# Altium footprint library QFP - Corner Index.PcbLib: 29 footprints (part 1 of 2)
Each footprint in its own frame and in the unit in brackets; x right, y up, seen from the top. Pads: shape width x height; smd on the part's side, far side on the other; paste and mask are expansions set on the pad; w line width, h text height; cw(c..) or ccw(c..) is an arc to the next point about the centre after c.
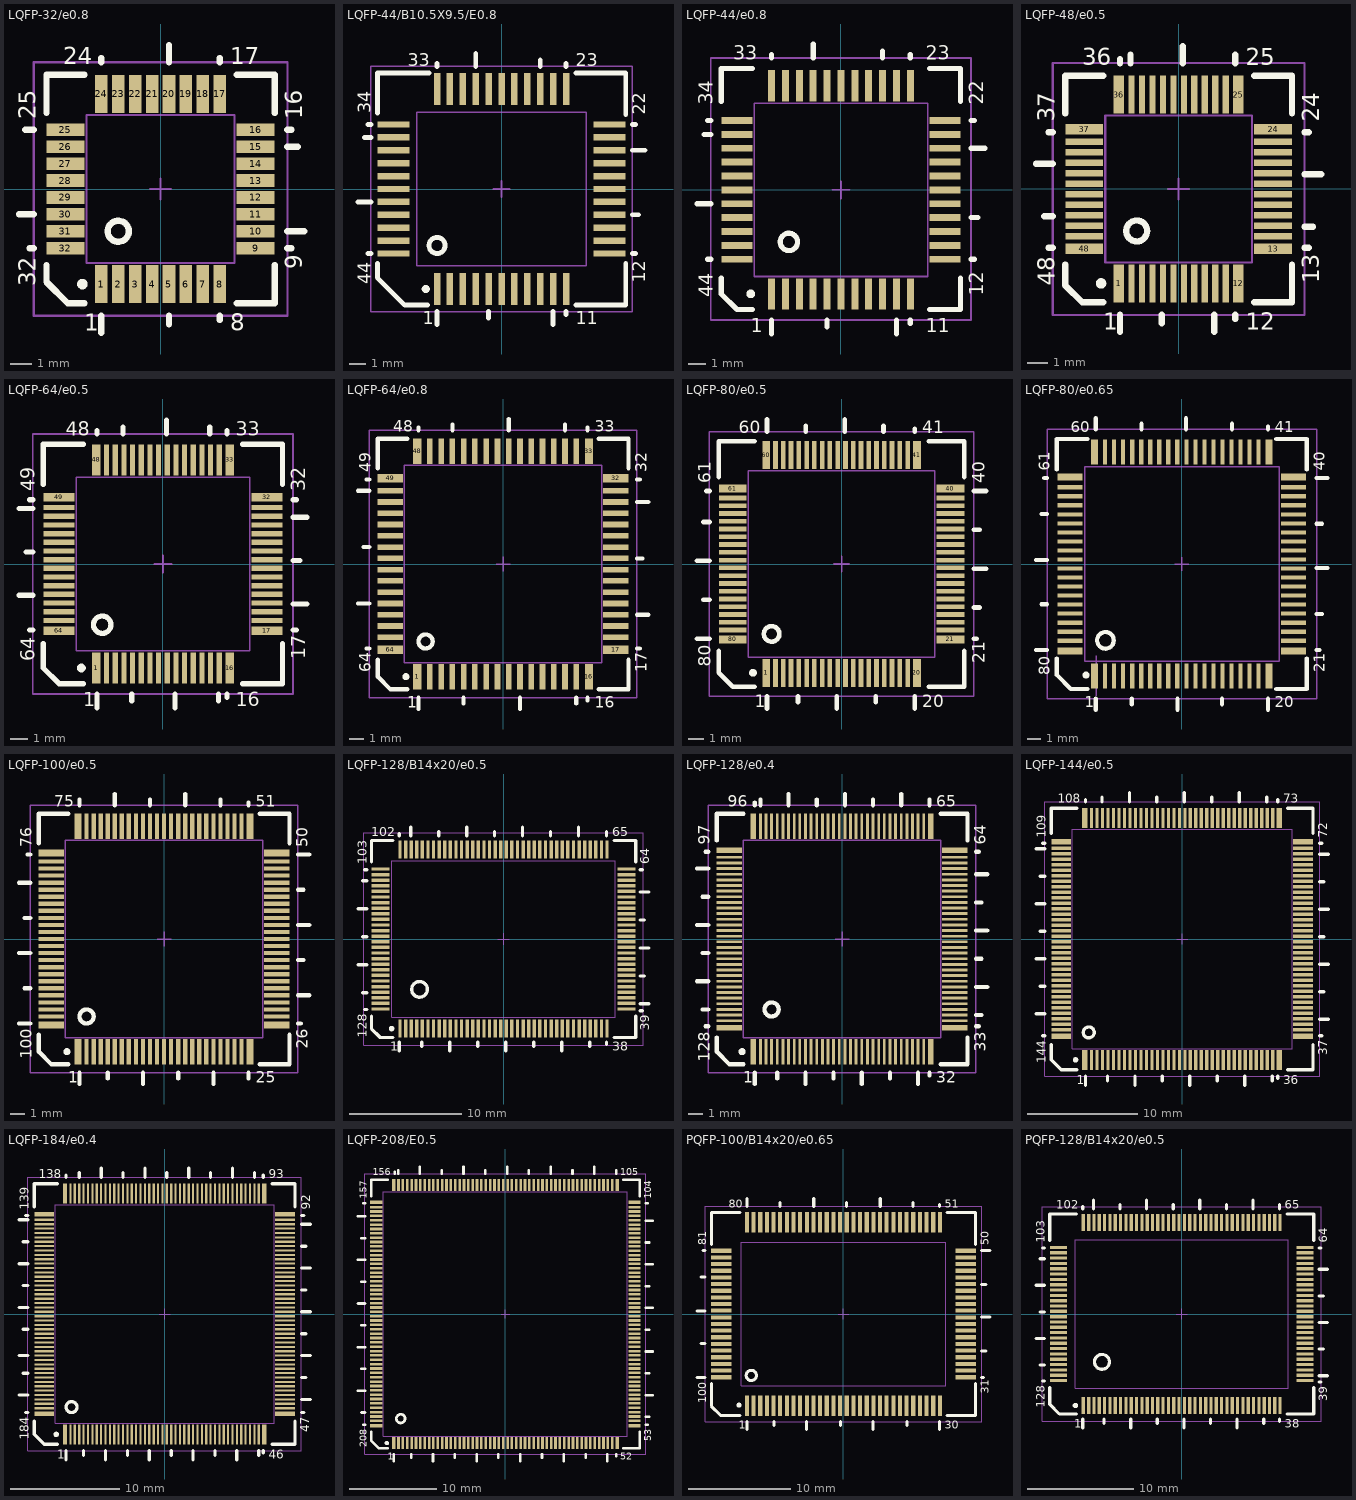
[diagram p0: the footprints below, top view; thin cyan lines are the x and y axes]

## LQFP-32/e0.8 [mm] "LQFP-32; JEDEC MS-026BBA; Body 7.00x7.00x1.60mm; Pitch 0.8mm;"
height 1.6
pads (32):
  rect 0.6x1.8 smd paste+0 mask+0.1: 1(-2.8,-4.5) 2(-2,-4.5) 4(-0.4,-4.5) 5(0.4,-4.5) 6(1.2,-4.5) 7(2,-4.5) 8(2.8,-4.5) 17(2.8,4.5) 18(2,4.5) 19(1.2,4.5) 20(0.4,4.5) 21(-0.4,4.5) 22(-1.2,4.5) 24(-2.8,4.5)
  rect 0.6x1.8 smd mask+0.1: 3(-1.2,-4.5) 23(-2,4.5)
  rect 1.8x0.6 smd paste+0 mask+0.1: 9(4.5,-2.8) 10(4.5,-2) 12(4.5,-0.4) 13(4.5,0.4) 14(4.5,1.2) 15(4.5,2) 16(4.5,2.8) 26(-4.5,2) 28(-4.5,0.4) 29(-4.5,-0.4) 30(-4.5,-1.2) 31(-4.5,-2) 32(-4.5,-2.8)
  rect 1.8x0.6 smd mask+0.1: 11(4.5,-1.2) 25(-4.5,2.8) 27(-4.5,1.2)
Top Overlay:
  circle w0.3: c-3.7,-4.5 r0.1
  circle w0.3: c-2,-2 r0.5
  lines w0.3: -6.7,-1.2 -6,-1.2 ; -6.4,2.8 -6,2.8 ; -6.2,-2.8 -6,-2.8 ; -5.4,-3.6 -5.4,-4.4 -4.4,-5.4 -3.6,-5.4 ; -5.4,3.6 -5.4,5.4 -3.6,5.4 ; -2.8,-6.8 -2.8,-6 ; -2.8,6 -2.8,6.2 ; 0.4,-6.4 0.4,-6 ; 0.4,6 0.4,6.8 ; 2.8,-6.2 2.8,-6 ; 2.8,6 2.8,6.2 ; 3.6,-5.4 5.4,-5.4 5.4,-3.6 ; 3.6,5.4 5.4,5.4 5.4,3.6 ; 6,-2.8 6.2,-2.8 ; 6,-2 6.8,-2 ; 6,2 6.5,2 ; 6,2.8 6.2,2.8
  text "1" at -3.6,-6.7 h0.8
  text "8" at 3.3,-6.7 h0.8
  text "9" at 6.7,-3.8 h0.8
  text "16" at 6.7,3.3 h0.8
  text "17" at 3.3,5.9 h0.8
  text "24" at -4.6,5.9 h0.8
  text "25" at -5.9,3.3 h0.8
  text "32" at -5.9,-4.6 h0.8
Package:
  circle w0.1: c-2,-2 r0.5
  lines w0.1: -3.5,-3.5 -3.5,3.5 3.5,3.5 3.5,-3.5 -3.5,-3.5
Courtyard:
  lines w0.1: -0.5,0 0.5,0 ; 0,-0.5 0,0.5 ; -6,-6 6,-6 6,6 -6,6 -6,-6
3D body: height 1.6, standoff 0.1, extent -3.5,-3.5 3.5,3.5

## LQFP-44/B10.5X9.5/E0.8 [mm] "LQFP-44; Body 14.50x13.50x2.25mm; Pitch 0.8mm;"
height 2.25
pads (44):
  rect 0.4x2 smd mask+0.1: 1(-4,-6.2) 2(-3.2,-6.2) 3(-2.4,-6.2) 4(-1.6,-6.2) 5(-0.8,-6.2) 6(0,-6.2) 7(0.8,-6.2) 8(1.6,-6.2) 9(2.4,-6.2) 10(3.2,-6.2) 11(4,-6.2) 23(4,6.2) 24(3.2,6.2) 25(2.4,6.2) 26(1.6,6.2) 27(0.8,6.2) 28(0,6.2) 29(-0.8,6.2) 30(-1.6,6.2) 31(-2.4,6.2) 32(-3.2,6.2) 33(-4,6.2)
  rect 2x0.4 smd mask+0.1: 12(6.7,-4) 13(6.7,-3.2) 14(6.7,-2.4) 15(6.7,-1.6) 16(6.7,-0.8) 17(6.7,0) 18(6.7,0.8) 19(6.7,1.6) 20(6.7,2.4) 21(6.7,3.2) 22(6.7,4) 34(-6.7,4) 35(-6.7,3.2) 36(-6.7,2.4) 37(-6.7,1.6) 38(-6.7,0.8) 39(-6.7,0) 40(-6.7,-0.8) 41(-6.7,-1.6) 42(-6.7,-2.4) 43(-6.7,-3.2) 44(-6.7,-4)
Top Overlay:
  circle w0.3: c-4.7,-6.2 r0.1
  circle w0.3: c-4,-3.5 r0.5
  lines w0.3: -8.9,-0.8 -8.1,-0.8 ; -8.5,3.2 -8.1,3.2 ; -8.3,-4 -8.1,-4 ; -8.3,4 -8.1,4 ; -7.7,-4.6 -7.7,-5.5 -6,-7.2 -4.6,-7.2 ; -7.7,4.7 -7.7,7.2 -4.5,7.2 ; -4,-8.4 -4,-7.6 ; -4,7.6 -4,7.8 ; -1.6,7.6 -1.6,8.4 ; -0.8,-8 -0.8,-7.6 ; 2.4,7.6 2.4,8 ; 3.2,-8.4 3.2,-7.6 ; 4,-7.8 4,-7.6 ; 4,7.6 4,7.8 ; 4.6,-7.2 7.7,-7.2 7.7,-4.6 ; 4.6,7.2 7.7,7.2 7.7,4.6 ; 8.1,-4 8.3,-4 ; 8.1,-1.6 8.5,-1.6 ; 8.1,2.4 8.9,2.4 ; 8.1,4 8.3,4
  text "44" at -8.1,-5.9 h0.8
  text "34" at -8.1,4.7 h0.8
  text "33" at -5.8,7.6 h0.8
  text "23" at 4.6,7.6 h0.8
  text "22" at 8.9,4.6 h0.8
  text "12" at 8.9,-5.8 h0.8
  text "11" at 4.6,-8.4 h0.8
  text "1" at -4.9,-8.4 h0.8
Package:
  circle w0.1: c-4,-3.5 r0.5
  lines w0.1: -5.25,-4.75 5.25,-4.75 5.25,4.75 -5.25,4.75 -5.25,-4.75
Courtyard:
  lines w0.1: -0.5,0 0.5,0 ; 0,-0.5 0,0.5 ; -8.1,-7.6 -8.1,7.6 8.1,7.6 8.1,-7.6 -8.1,-7.6
3D body: height 2.25, standoff 0.2, extent -5.25,-4.75 5.25,4.75

## LQFP-44/e0.8 [mm] "LQFP-44; JEDEC JEDEC MS-026BCB; Body 10.00x10.00x1.60mm; Pitch 0.8mm;"
height 1.6
pads (44):
  rect 0.4x1.8 smd mask+0.1: 1(-4,-6) 2(-3.2,-6) 3(-2.4,-6) 4(-1.6,-6) 5(-0.8,-6) 6(0,-6) 7(0.8,-6) 8(1.6,-6) 9(2.4,-6) 10(3.2,-6) 11(4,-6) 23(4,6) 24(3.2,6) 25(2.4,6) 26(1.6,6) 27(0.8,6) 28(0,6) 29(-0.8,6) 30(-1.6,6) 31(-2.4,6) 32(-3.2,6) 33(-4,6)
  rect 1.8x0.4 smd mask+0.1: 12(6,-4) 13(6,-3.2) 14(6,-2.4) 15(6,-1.6) 16(6,-0.8) 17(6,0) 18(6,0.8) 19(6,1.6) 20(6,2.4) 21(6,3.2) 22(6,4) 34(-6,4) 35(-6,3.2) 36(-6,2.4) 37(-6,1.6) 38(-6,0.8) 39(-6,0) 40(-6,-0.8) 41(-6,-1.6) 42(-6,-2.4) 43(-6,-3.2) 44(-6,-4)
Top Overlay:
  circle w0.3: c-5.2,-6 r0.1
  circle w0.3: c-3,-3 r0.5
  lines w0.3: -8.3,-0.8 -7.5,-0.8 ; -7.9,3.2 -7.5,3.2 ; -7.7,-4 -7.5,-4 ; -7.7,4 -7.5,4 ; -6.9,-5.1 -6.9,-6 -6,-6.9 -5.1,-6.9 ; -6.9,5.1 -6.9,7 -5.1,7 ; -4,-8.3 -4,-7.5 ; -4,7.6 -4,7.8 ; -1.6,7.6 -1.6,8.4 ; -0.8,-7.9 -0.8,-7.5 ; 2.4,7.6 2.4,8 ; 3.2,-8.3 3.2,-7.5 ; 4,-7.7 4,-7.5 ; 4,7.6 4,7.8 ; 5.1,-6.9 6.9,-6.9 6.9,-5.1 ; 5.1,7 6.9,7 6.9,5.1 ; 7.5,-4 7.7,-4 ; 7.5,-1.6 7.9,-1.6 ; 7.5,2.4 8.3,2.4 ; 7.5,4 7.7,4
  text "34" at -7.4,4.9 h0.8
  text "33" at -6.2,7.5 h0.8
  text "23" at 4.9,7.5 h0.8
  text "22" at 8.2,4.9 h0.8
  text "12" at 8.2,-6.1 h0.8
  text "11" at 4.9,-8.2 h0.8
  text "1" at -5.2,-8.2 h0.8
  text "44" at -7.4,-6.2 h0.8
Package:
  circle w0.1: c-3,-3 r0.5
  lines w0.1: -5,-5 5,-5 5,5 -5,5 -5,-5
Courtyard:
  lines w0.1: -0.5,0 0.5,0 ; 0,-0.5 0,0.5 ; -7.5,-7.5 7.5,-7.5 7.5,7.6 -7.5,7.6 -7.5,-7.5
3D body: height 1.6, standoff 0, extent -5,-5 5,5

## LQFP-48/e0.5 [mm] "LQFP-48; JEDEC MS-026BBC; Body 7.00x7.00x1.60mm; Pitch 0.5mm;"
height 1.6
pads (48):
  rect 0.5x1.8 smd mask+0.1: 1(-2.85,-4.5) 12(2.85,-4.5) 25(2.85,4.5) 36(-2.85,4.5)
  rect 0.3x1.8 smd mask+0.1: 2(-2.25,-4.5) 3(-1.75,-4.5) 4(-1.25,-4.5) 5(-0.75,-4.5) 6(-0.25,-4.5) 7(0.25,-4.5) 8(0.75,-4.5) 9(1.25,-4.5) 10(1.75,-4.5) 11(2.25,-4.5) 26(2.25,4.5) 27(1.75,4.5) 28(1.25,4.5) 29(0.75,4.5) 30(0.25,4.5) 31(-0.25,4.5) 32(-0.75,4.5) 33(-1.25,4.5) 34(-1.75,4.5) 35(-2.25,4.5)
  rect 1.8x0.5 smd mask+0.1: 13(4.5,-2.85) 24(4.5,2.85) 37(-4.5,2.85) 48(-4.5,-2.85)
  rect 1.8x0.3 smd mask+0.1: 14(4.5,-2.25) 15(4.5,-1.75) 16(4.5,-1.25) 17(4.5,-0.75) 18(4.5,-0.25) 19(4.5,0.25) 20(4.5,0.75) 21(4.5,1.25) 22(4.5,1.75) 23(4.5,2.25) 38(-4.5,2.25) 39(-4.5,1.75) 40(-4.5,1.25) 41(-4.5,0.75) 42(-4.5,0.25) 43(-4.5,-0.25) 44(-4.5,-0.75) 45(-4.5,-1.25) 46(-4.5,-1.75) 47(-4.5,-2.25)
Top Overlay:
  circle w0.3: c-2,-2 r0.5
  circle w0.3: c-3.7,-4.5 r0.1
  lines w0.3: -6.8,1.2 -6,1.2 ; -6.4,-1.3 -6,-1.3 ; -6.2,-2.8 -6,-2.8 ; -6.2,2.7 -6,2.7 ; -5.4,-3.6 -5.4,-4.6 -4.6,-5.4 -3.6,-5.4 ; -5.4,3.6 -5.4,5.4 -3.6,5.4 ; -2.8,-6.8 -2.8,-6 ; -2.8,6 -2.8,6.2 ; -2.3,6 -2.3,6.4 ; -0.8,-6.4 -0.8,-6 ; 0.2,6 0.2,6.8 ; 1.7,-6.8 1.7,-6 ; 2.7,-6.2 2.7,-6 ; 2.7,6 2.7,6.4 ; 3.6,-5.4 5.4,-5.4 5.4,-3.6 ; 3.6,5.4 5.4,5.4 5.4,3.6 ; 6,-2.8 6.2,-2.8 ; 6,-1.8 6.4,-1.8 ; 6,0.7 6.8,0.7 ; 6,2.7 6.2,2.7
  text "48" at -5.9,-4.6 h0.8
  text "37" at -5.9,3.2 h0.8
  text "36" at -4.6,5.9 h0.8
  text "25" at 3.2,5.9 h0.8
  text "24" at 6.7,3.2 h0.8
  text "13" at 6.7,-4.5 h0.8
  text "12" at 3.2,-6.7 h0.8
  text "1" at -3.6,-6.7 h0.8
Package:
  circle w0.1: c-2,-2 r0.5
  lines w0.1: -3.5,-3.5 -3.5,3.5 3.5,3.5 3.5,-3.5 -3.5,-3.5
Courtyard:
  lines w0.1: -0.5,0 0.5,0 ; 0,-0.5 0,0.5 ; -6,-6 -6,6 6,6 6,-6 -6,-6
3D body: height 1.6, standoff 0, extent -3.5,-3.5 3.5,3.5

## LQFP-64/e0.5 [mm] "LQFP-64; JEDEC MS-026BCD; Body 10.00x10.00x1.60mm; Pitch 0.5mm;"
height 1.6
pads (64):
  rect 0.5x1.8 smd mask+0.1: 1(-3.85,-6) 16(3.85,-6) 33(3.85,6) 48(-3.85,6)
  rect 0.3x1.8 smd mask+0.1: 2(-3.25,-6) 3(-2.75,-6) 4(-2.25,-6) 5(-1.75,-6) 6(-1.25,-6) 7(-0.75,-6) 8(-0.25,-6) 9(0.25,-6) 10(0.75,-6) 11(1.25,-6) 12(1.75,-6) 13(2.25,-6) 14(2.75,-6) 15(3.25,-6) 34(3.25,6) 35(2.75,6) 36(2.25,6) 37(1.75,6) 38(1.25,6) 39(0.75,6) 40(0.25,6) 41(-0.25,6) 42(-0.75,6) 43(-1.25,6) 44(-1.75,6) 45(-2.25,6) 46(-2.75,6) 47(-3.25,6)
  rect 1.8x0.5 smd mask+0.1: 17(6,-3.85) 32(6,3.85) 49(-6,3.85) 64(-6,-3.85)
  rect 1.8x0.3 smd mask+0.1: 18(6,-3.25) 19(6,-2.75) 20(6,-2.25) 21(6,-1.75) 22(6,-1.25) 23(6,-0.75) 24(6,-0.25) 25(6,0.25) 26(6,0.75) 27(6,1.25) 28(6,1.75) 29(6,2.25) 30(6,2.75) 31(6,3.25) 50(-6,3.25) 51(-6,2.75) 52(-6,2.25) 53(-6,1.75) 54(-6,1.25) 55(-6,0.75) 56(-6,0.25) 57(-6,-0.25) 58(-6,-0.75) 59(-6,-1.25) 60(-6,-1.75) 61(-6,-2.25) 62(-6,-2.75) 63(-6,-3.25)
Top Overlay:
  circle w0.3: c-4.7,-6 r0.1
  circle w0.3: c-3.5,-3.5 r0.5
  lines w0.3: -8.3,-1.8 -7.5,-1.8 ; -8.3,3.2 -7.5,3.2 ; -7.9,0.7 -7.5,0.7 ; -7.7,-3.8 -7.5,-3.8 ; -7.7,3.7 -7.5,3.7 ; -6.9,-4.6 -6.9,-6 -6,-6.9 -4.6,-6.9 ; -6.9,4.6 -6.9,6.9 -4.6,6.9 ; -3.8,-8.3 -3.8,-7.5 ; -3.8,7.5 -3.8,7.7 ; -2.3,7.5 -2.3,7.9 ; -1.8,-7.9 -1.8,-7.5 ; 0.2,7.5 0.2,8.3 ; 0.7,-8.3 0.7,-7.5 ; 2.7,7.5 2.7,7.9 ; 3.2,-7.9 3.2,-7.5 ; 3.7,-7.7 3.7,-7.5 ; 3.7,7.5 3.7,7.7 ; 4.6,-6.9 6.9,-6.9 6.9,-4.6 ; 4.6,6.9 6.9,6.9 6.9,4.6 ; 7.5,-3.8 7.7,-3.8 ; 7.5,-2.3 8.3,-2.3 ; 7.5,0.2 7.9,0.2 ; 7.5,2.7 8.3,2.7 ; 7.5,3.7 7.7,3.7
  text "64" at -7.4,-5.6 h0.8
  text "49" at -7.4,4.2 h0.8
  text "48" at -5.6,7.4 h0.8
  text "33" at 4.2,7.4 h0.8
  text "32" at 8.2,4.2 h0.8
  text "17" at 8.2,-5.5 h0.8
  text "16" at 4.2,-8.2 h0.8
  text "1" at -4.6,-8.2 h0.8
Package:
  circle w0.1: c-3.5,-3.5 r0.5
  lines w0.1: -5,-5 5,-5 5,5 -5,5 -5,-5
Courtyard:
  lines w0.1: -0.5,0 0.5,0 ; 0,-0.5 0,0.5 ; -7.5,-7.5 7.5,-7.5 7.5,7.5 -7.5,7.5 -7.5,-7.5
3D body: height 1.6, standoff 0, extent -5,-5 5,5

## LQFP-64/e0.8 [mm] "LQFP-64; JEDEC MS-026BEB; Body 14.00x14.00x1.60mm; Pitch 0.8mm;"
height 1.6
pads (64):
  rect 0.6x1.8 smd mask+0.1: 1(-6.1,-8) 16(6.1,-8) 33(6.1,8) 48(-6.1,8)
  rect 0.4x1.8 smd mask+0.1: 2(-5.2,-8) 3(-4.4,-8) 4(-3.6,-8) 5(-2.8,-8) 6(-2,-8) 7(-1.2,-8) 8(-0.4,-8) 9(0.4,-8) 10(1.2,-8) 11(2,-8) 12(2.8,-8) 13(3.6,-8) 14(4.4,-8) 15(5.2,-8) 34(5.2,8) 35(4.4,8) 36(3.6,8) 37(2.8,8) 38(2,8) 39(1.2,8) 40(0.4,8) 41(-0.4,8) 42(-1.2,8) 43(-2,8) 44(-2.8,8) 45(-3.6,8) 46(-4.4,8) 47(-5.2,8)
  rect 1.8x0.6 smd mask+0.1: 17(8,-6.1) 32(8,6.1) 49(-8,6.1) 64(-8,-6.1)
  rect 1.8x0.4 smd mask+0.1: 18(8,-5.2) 19(8,-4.4) 20(8,-3.6) 21(8,-2.8) 22(8,-2) 23(8,-1.2) 24(8,-0.4) 25(8,0.4) 26(8,1.2) 27(8,2) 28(8,2.8) 29(8,3.6) 30(8,4.4) 31(8,5.2) 50(-8,5.2) 51(-8,4.4) 52(-8,3.6) 53(-8,2.8) 54(-8,2) 55(-8,1.2) 56(-8,0.4) 57(-8,-0.4) 58(-8,-1.2) 59(-8,-2) 60(-8,-2.8) 61(-8,-3.6) 62(-8,-4.4) 63(-8,-5.2)
Top Overlay:
  circle w0.3: c-5.5,-5.5 r0.5
  circle w0.3: c-6.9,-8 r0.1
  lines w0.3: -10.3,-2.8 -9.5,-2.8 ; -10.3,5.2 -9.5,5.2 ; -9.9,1.2 -9.5,1.2 ; -9.7,-6 -9.5,-6 ; -9.7,6 -9.5,6 ; -8.9,-6.8 -8.9,-8 -8,-8.9 -6.8,-8.9 ; -8.9,6.8 -8.9,8.9 -6.8,8.9 ; -6,-10.3 -6,-9.5 ; -6,9.5 -6,9.7 ; -3.6,9.5 -3.6,9.9 ; -2.8,-9.9 -2.8,-9.5 ; 0.4,9.5 0.4,10.3 ; 1.2,-10.3 1.2,-9.5 ; 4.4,9.5 4.4,9.9 ; 5.2,-9.9 5.2,-9.5 ; 6,-9.7 6,-9.5 ; 6,9.5 6,9.7 ; 6.8,-8.9 8.9,-8.9 8.9,-6.8 ; 6.8,8.9 8.9,8.9 8.9,6.8 ; 9.5,-6 9.7,-6 ; 9.5,-3.6 10.3,-3.6 ; 9.5,0.4 9.9,0.4 ; 9.5,4.4 10.3,4.4 ; 9.5,6 9.7,6
  text "1" at -6.8,-10.2 h0.8
  text "16" at 6.5,-10.2 h0.8
  text "17" at 10.2,-7.7 h0.8
  text "32" at 10.2,6.5 h0.8
  text "33" at 6.5,9.4 h0.8
  text "48" at -7.8,9.4 h0.8
  text "49" at -9.4,6.5 h0.8
  text "64" at -9.4,-7.7 h0.8
Package:
  circle w0.1: c-5.5,-5.5 r0.5
  lines w0.1: -7,-7 -7,7 7,7 7,-7 -7,-7
Courtyard:
  lines w0.1: -0.5,0 0.5,0 ; 0,-0.5 0,0.5 ; -9.5,-9.5 9.5,-9.5 9.5,9.5 -9.5,9.5 -9.5,-9.5
3D body: height 1.2, standoff 0, extent -7,-7 7,7

## LQFP-80/e0.5 [mm] "LQFP-80; JEDEC MS-026BDD; Body 12.00x12.00x1.60mm; Pitch 0.5mm;"
height 1.6
pads (80):
  rect 0.5x1.8 smd mask+0.1: 1(-4.85,-7) 20(4.85,-7) 41(4.85,7) 60(-4.85,7)
  rect 0.3x1.8 smd mask+0.1: 2(-4.25,-7) 3(-3.75,-7) 4(-3.25,-7) 5(-2.75,-7) 6(-2.25,-7) 7(-1.75,-7) 8(-1.25,-7) 9(-0.75,-7) 10(-0.25,-7) 11(0.25,-7) 12(0.75,-7) 13(1.25,-7) 14(1.75,-7) 15(2.25,-7) 16(2.75,-7) 17(3.25,-7) 18(3.75,-7) 19(4.25,-7) 42(4.25,7) 43(3.75,7) 44(3.25,7) 45(2.75,7) 46(2.25,7) 47(1.75,7) 48(1.25,7) 49(0.75,7) 50(0.25,7) 51(-0.25,7) 52(-0.75,7) 53(-1.25,7) 54(-1.75,7) 55(-2.25,7) 56(-2.75,7) 57(-3.25,7) 58(-3.75,7) 59(-4.25,7)
  rect 1.8x0.5 smd mask+0.1: 21(7,-4.85) 40(7,4.85) 61(-7,4.85) 80(-7,-4.85)
  rect 1.8x0.3 smd mask+0.1: 22(7,-4.25) 23(7,-3.75) 24(7,-3.25) 25(7,-2.75) 26(7,-2.25) 27(7,-1.75) 28(7,-1.25) 29(7,-0.75) 30(7,-0.25) 31(7,0.25) 32(7,0.75) 33(7,1.25) 34(7,1.75) 35(7,2.25) 36(7,2.75) 37(7,3.25) 38(7,3.75) 39(7,4.25) 62(-7,4.25) 63(-7,3.75) 64(-7,3.25) 65(-7,2.75) 66(-7,2.25) 67(-7,1.75) 68(-7,1.25) 69(-7,0.75) 70(-7,0.25) 71(-7,-0.25) 72(-7,-0.75) 73(-7,-1.25) 74(-7,-1.75) 75(-7,-2.25) 76(-7,-2.75) 77(-7,-3.25) 78(-7,-3.75) 79(-7,-4.25)
Top Overlay:
  circle w0.3: c-5.7,-7 r0.1
  circle w0.3: c-4.5,-4.5 r0.5
  lines w0.3: -9.3,-4.8 -8.5,-4.8 ; -9.3,0.2 -8.5,0.2 ; -8.9,-2.3 -8.5,-2.3 ; -8.9,2.7 -8.5,2.7 ; -8.7,4.7 -8.5,4.7 ; -7.9,-5.6 -7.9,-7 -7,-7.9 -5.6,-7.9 ; -7.9,5.6 -7.9,7.9 -5.6,7.9 ; -4.8,-9.3 -4.8,-8.5 ; -4.8,8.5 -4.8,9.3 ; -2.8,-8.9 -2.8,-8.5 ; -2.3,8.5 -2.3,8.9 ; -0.3,-9.3 -0.3,-8.5 ; 0.2,8.5 0.2,9.3 ; 2.2,-8.9 2.2,-8.5 ; 2.7,8.5 2.7,8.9 ; 4.7,-9.3 4.7,-8.5 ; 4.7,8.5 4.7,8.7 ; 5.6,-7.9 7.9,-7.9 7.9,-5.6 ; 5.6,7.9 7.9,7.9 7.9,5.6 ; 8.5,-4.8 8.7,-4.8 ; 8.5,-2.8 8.9,-2.8 ; 8.5,-0.3 9.3,-0.3 ; 8.5,2.2 8.9,2.2 ; 8.5,4.7 9.3,4.7
  text "1" at -5.6,-9.2 h0.8
  text "20" at 5.2,-9.2 h0.8
  text "21" at 9.2,-6.4 h0.8
  text "40" at 9.2,5.2 h0.8
  text "41" at 5.2,8.4 h0.8
  text "60" at -6.6,8.4 h0.8
  text "61" at -8.4,5.2 h0.8
  text "80" at -8.4,-6.6 h0.8
Package:
  circle w0.1: c-4.5,-4.5 r0.5
  lines w0.1: -6,-6 6,-6 6,6 -6,6 -6,-6
Courtyard:
  lines w0.1: -0.5,0 0.5,0 ; 0,-0.5 0,0.5 ; -8.5,-8.5 -8.5,8.5 8.5,8.5 8.5,-8.5 -8.5,-8.5
3D body: height 1.6, standoff 0, extent -6,-6 6,6

## LQFP-80/e0.65 [mm] "LQFP-80; JEDEC MS-026BEC; Body 14.00x14.00x1.60mm; Pitch 0.65mm;"
height 1.6
pads (80):
  rect 0.5x1.8 smd mask+0.1: 1(-6.275,-8.05) 20(6.275,-8.05) 41(6.275,8.05) 60(-6.275,8.05)
  rect 0.3x1.8 smd mask+0.1: 2(-5.525,-8.05) 3(-4.875,-8.05) 4(-4.225,-8.05) 5(-3.575,-8.05) 6(-2.925,-8.05) 7(-2.275,-8.05) 8(-1.625,-8.05) 9(-0.975,-8.05) 10(-0.325,-8.05) 11(0.325,-8.05) 12(0.975,-8.05) 13(1.625,-8.05) 14(2.275,-8.05) 15(2.925,-8.05) 16(3.575,-8.05) 17(4.225,-8.05) 18(4.875,-8.05) 19(5.525,-8.05) 42(5.525,8.05) 43(4.875,8.05) 44(4.225,8.05) 45(3.575,8.05) 46(2.925,8.05) 47(2.275,8.05) 48(1.625,8.05) 49(0.975,8.05) 50(0.325,8.05) 51(-0.325,8.05) 52(-0.975,8.05) 53(-1.625,8.05) 54(-2.275,8.05) 55(-2.925,8.05) 56(-3.575,8.05) 57(-4.225,8.05) 58(-4.875,8.05) 59(-5.525,8.05)
  rect 1.8x0.5 smd mask+0.1: 21(8.05,-6.275) 40(8.05,6.275) 61(-8.05,6.275) 80(-8.05,-6.275)
  rect 1.8x0.3 smd mask+0.1: 22(8.05,-5.525) 23(8.05,-4.875) 24(8.05,-4.225) 25(8.05,-3.575) 26(8.05,-2.925) 27(8.05,-2.275) 28(8.05,-1.625) 29(8.05,-0.975) 30(8.05,-0.325) 31(8.05,0.325) 32(8.05,0.975) 33(8.05,1.625) 34(8.05,2.275) 35(8.05,2.925) 36(8.05,3.575) 37(8.05,4.225) 38(8.05,4.875) 39(8.05,5.525) 62(-8.05,5.525) 63(-8.05,4.875) 64(-8.05,4.225) 65(-8.05,3.575) 66(-8.05,2.925) 67(-8.05,2.275) 68(-8.05,1.625) 69(-8.05,0.975) 70(-8.05,0.325) 71(-8.05,-0.325) 72(-8.05,-0.975) 73(-8.05,-1.625) 74(-8.05,-2.275) 75(-8.05,-2.925) 76(-8.05,-3.575) 77(-8.05,-4.225) 78(-8.05,-4.875) 79(-8.05,-5.525)
Top Overlay:
  circle w0.3: c-6.9,-8 r0.1
  circle w0.3: c-5.5,-5.5 r0.6
  lines w0.3: -10.5,-6.2 -9.7,-6.2 ; -10.5,0.3 -9.7,0.3 ; -10.1,-2.9 -9.7,-2.9 ; -10.1,3.6 -9.7,3.6 ; -9.9,6.2 -9.7,6.2 ; -9,-6.8 -9,-8 -8,-9 -6.8,-9 ; -9,6.8 -9,9 -6.8,9 ; -6.2,-10.5 -6.2,-9.7 ; -6.2,9.7 -6.2,10.5 ; -3.6,-10.1 -3.6,-9.7 ; -2.9,9.7 -2.9,10.1 ; -0.3,-10.5 -0.3,-9.7 ; 0.3,9.7 0.3,10.5 ; 2.9,-10.1 2.9,-9.7 ; 3.6,9.7 3.6,10.1 ; 6.2,-10.5 6.2,-9.7 ; 6.2,9.7 6.2,9.9 ; 6.8,-9 9,-9 9,-6.8 ; 6.8,9 9,9 9,6.8 ; 9.7,-6.2 9.9,-6.2 ; 9.7,-3.6 10.1,-3.6 ; 9.7,-0.3 10.5,-0.3 ; 9.7,2.9 10.1,2.9 ; 9.7,6.2 10.5,6.2
  text "80" at -9.5,-8 h0.8
  text "61" at -9.5,6.7 h0.8
  text "60" at -8,9.5 h0.8
  text "41" at 6.7,9.5 h0.8
  text "40" at 10.3,6.7 h0.8
  text "21" at 10.3,-7.8 h0.8
  text "20" at 6.7,-10.3 h0.8
  text "1" at -7,-10.3 h0.8
Package:
  circle w0.1: c-5.5,-5.5 r0.6
  lines w0.1: -7,-7 -7,7 7,7 7,-7 -7,-7
Courtyard:
  lines w0.1: -6.175,-9.5 -6.175,-6.6 ; -0.5,0 0.5,0 ; 0,-0.5 0,0.5 ; -9.7,-9.7 9.7,-9.7 9.7,9.7 -9.7,9.7 -9.7,-9.7
3D body: height 1.6, standoff 0, extent -7,-7 7,7

## LQFP-100/e0.5 [mm] "LQFP-100; JEDEC MS-026BED; Body 14.00x14.00x1.60mm; Pitch 0.5mm;"
height 1.6
pads (100):
  rect 0.5x1.8 smd mask+0.1: 1(-6.1,-8) 25(6.1,-8) 51(6.1,8) 75(-6.1,8)
  rect 0.3x1.8 smd mask+0.1: 2(-5.5,-8) 3(-5,-8) 4(-4.5,-8) 5(-4,-8) 6(-3.5,-8) 7(-3,-8) 8(-2.5,-8) 9(-2,-8) 10(-1.5,-8) 11(-1,-8) 12(-0.5,-8) 13(0,-8) 14(0.5,-8) 15(1,-8) 16(1.5,-8) 17(2,-8) 18(2.5,-8) 19(3,-8) 20(3.5,-8) 21(4,-8) 22(4.5,-8) 23(5,-8) 24(5.5,-8) 52(5.5,8) 53(5,8) 54(4.5,8) 55(4,8) 56(3.5,8) 57(3,8) 58(2.5,8) 59(2,8) 60(1.5,8) 61(1,8) 62(0.5,8) 63(0,8) 64(-0.5,8) 65(-1,8) 66(-1.5,8) 67(-2,8) 68(-2.5,8) 69(-3,8) 70(-3.5,8) 71(-4,8) 72(-4.5,8) 73(-5,8) 74(-5.5,8)
  rect 1.8x0.5 smd mask+0.1: 26(8,-6.1) 50(8,6.1) 76(-8,6.1) 100(-8,-6.1)
  rect 1.8x0.3 smd mask+0.1: 27(8,-5.5) 28(8,-5) 29(8,-4.5) 30(8,-4) 31(8,-3.5) 32(8,-3) 33(8,-2.5) 34(8,-2) 35(8,-1.5) 36(8,-1) 37(8,-0.5) 38(8,0) 39(8,0.5) 40(8,1) 41(8,1.5) 42(8,2) 43(8,2.5) 44(8,3) 45(8,3.5) 46(8,4) 47(8,4.5) 48(8,5) 49(8,5.5) 77(-8,5.5) 78(-8,5) 79(-8,4.5) 80(-8,4) 81(-8,3.5) 82(-8,3) 83(-8,2.5) 84(-8,2) 85(-8,1.5) 86(-8,1) 87(-8,0.5) 88(-8,0) 89(-8,-0.5) 90(-8,-1) 91(-8,-1.5) 92(-8,-2) 93(-8,-2.5) 94(-8,-3) 95(-8,-3.5) 96(-8,-4) 97(-8,-4.5) 98(-8,-5) 99(-8,-5.5)
Top Overlay:
  circle w0.3: c-5.5,-5.5 r0.5
  circle w0.3: c-6.9,-8 r0.1
  lines w0.3: -10.3,-6 -9.5,-6 ; -10.3,-1 -9.5,-1 ; -10.3,4 -9.5,4 ; -9.9,-3.5 -9.5,-3.5 ; -9.9,1.5 -9.5,1.5 ; -9.7,6 -9.5,6 ; -8.9,-6.8 -8.9,-8 -8,-8.9 -6.8,-8.9 ; -8.9,6.8 -8.9,8.9 -6.8,8.9 ; -6,-10.3 -6,-9.5 ; -6,9.5 -6,9.9 ; -4,-9.9 -4,-9.5 ; -3.5,9.5 -3.5,10.3 ; -1.5,-10.3 -1.5,-9.5 ; -1,9.5 -1,9.9 ; 1,-9.9 1,-9.5 ; 1.5,9.5 1.5,10.3 ; 3.5,-10.3 3.5,-9.5 ; 4,9.5 4,9.9 ; 6,-9.9 6,-9.5 ; 6,9.5 6,9.7 ; 6.8,-8.9 8.9,-8.9 8.9,-6.8 ; 6.8,8.9 8.9,8.9 8.9,6.8 ; 9.5,-6 9.7,-6 ; 9.5,-4 10.3,-4 ; 9.5,-1.5 9.9,-1.5 ; 9.5,1 10.3,1 ; 9.5,3.5 9.9,3.5 ; 9.5,6 10.3,6
  text "100" at -9.4,-8.5 h0.8
  text "76" at -9.4,6.5 h0.8
  text "75" at -7.8,9.4 h0.8
  text "51" at 6.5,9.4 h0.8
  text "50" at 10.2,6.5 h0.8
  text "26" at 10.2,-7.8 h0.8
  text "25" at 6.5,-10.2 h0.8
  text "1" at -6.8,-10.2 h0.8
Package:
  circle w0.1: c-5.5,-5.5 r0.5
  lines w0.1: -7,-7 -7,7 7,7 7,-7 -7,-7
Courtyard:
  lines w0.1: -0.5,0 0.5,0 ; 0,-0.5 0,0.5 ; -9.5,-9.5 9.5,-9.5 9.5,9.5 -9.5,9.5 -9.5,-9.5
3D body: height 1.6, standoff 0, extent -7,-7 7,7

## LQFP-128/B14x20/e0.5 [mm] "PQFP-128; JEDEC MS-026BHB; Body 14.00x20.00x1.6mm; Pitch 0.5mm;"
height 1.6
pads (128):
  rect 0.3x1.6 smd mask+0.1: 1(-9.25,-8) 2(-8.75,-8) 3(-8.25,-8) 4(-7.75,-8) 5(-7.25,-8) 6(-6.75,-8) 7(-6.25,-8) 8(-5.75,-8) 9(-5.25,-8) 10(-4.75,-8) 11(-4.25,-8) 12(-3.75,-8) 13(-3.25,-8) 14(-2.75,-8) 15(-2.25,-8) 16(-1.75,-8) 17(-1.25,-8) 18(-0.75,-8) 19(-0.25,-8) 20(0.25,-8) 21(0.75,-8) 22(1.25,-8) 23(1.75,-8) 24(2.25,-8) 25(2.75,-8) 26(3.25,-8) 27(3.75,-8) 28(4.25,-8) 29(4.75,-8) 30(5.25,-8) 31(5.75,-8) 32(6.25,-8) 33(6.75,-8) 34(7.25,-8) 35(7.75,-8) 36(8.25,-8) 37(8.75,-8) 38(9.25,-8) 65(9.25,8) 66(8.75,8) 67(8.25,8) 68(7.75,8) 69(7.25,8) 70(6.75,8) 71(6.25,8) 72(5.75,8) 73(5.25,8) 74(4.75,8) 75(4.25,8) 76(3.75,8) 77(3.25,8) 78(2.75,8) 79(2.25,8) 80(1.75,8) 81(1.25,8) 82(0.75,8) 83(0.25,8) 84(-0.25,8) 85(-0.75,8) 86(-1.25,8) 87(-1.75,8) 88(-2.25,8) 89(-2.75,8) 90(-3.25,8) 91(-3.75,8) 92(-4.25,8) 93(-4.75,8) 94(-5.25,8) 95(-5.75,8) 96(-6.25,8) 97(-6.75,8) 98(-7.25,8) 99(-7.75,8) 100(-8.25,8) 101(-8.75,8) 102(-9.25,8)
  rect 1.6x0.3 smd mask+0.1: 39(11,-6.25) 40(11,-5.75) 41(11,-5.25) 42(11,-4.75) 43(11,-4.25) 44(11,-3.75) 45(11,-3.25) 46(11,-2.75) 47(11,-2.25) 48(11,-1.75) 49(11,-1.25) 50(11,-0.75) 51(11,-0.25) 52(11,0.25) 53(11,0.75) 54(11,1.25) 55(11,1.75) 56(11,2.25) 57(11,2.75) 58(11,3.25) 59(11,3.75) 60(11,4.25) 61(11,4.75) 62(11,5.25) 63(11,5.75) 64(11,6.25) 103(-11,6.25) 104(-11,5.75) 105(-11,5.25) 106(-11,4.75) 107(-11,4.25) 108(-11,3.75) 109(-11,3.25) 110(-11,2.75) 111(-11,2.25) 112(-11,1.75) 113(-11,1.25) 114(-11,0.75) 115(-11,0.25) 116(-11,-0.25) 117(-11,-0.75) 118(-11,-1.25) 119(-11,-1.75) 120(-11,-2.25) 121(-11,-2.75) 122(-11,-3.25) 123(-11,-3.75) 124(-11,-4.25) 125(-11,-4.75) 126(-11,-5.25) 127(-11,-5.75) 128(-11,-6.25)
Top Overlay:
  circle w0.3: c-7.5,-4.5 r0.7
  circle w0.3: c-10,-8 r0.1
  lines w0.3: -13,-2.3 -12.2,-2.3 ; -13,2.7 -12.2,2.7 ; -12.6,-4.8 -12.2,-4.8 ; -12.6,0.2 -12.2,0.2 ; -12.6,5.2 -12.2,5.2 ; -12.4,-6.3 -12.2,-6.3 ; -12.4,6.2 -12.2,6.2 ; -11.8,-6.9 -11.8,-8 -11,-8.8 -9.9,-8.8 ; -11.8,6.9 -11.8,8.8 -9.9,8.8 ; -9.3,-10 -9.3,-9.2 ; -9.3,9.2 -9.3,9.4 ; -8.3,9.2 -8.3,10 ; -7.3,-9.6 -7.3,-9.2 ; -5.8,9.2 -5.8,9.6 ; -4.8,-10 -4.8,-9.2 ; -3.3,9.2 -3.3,10 ; -2.3,-9.6 -2.3,-9.2 ; -0.8,9.2 -0.8,9.6 ; 0.2,-10 0.2,-9.2 ; 1.7,9.2 1.7,10 ; 2.7,-9.6 2.7,-9.2 ; 4.2,9.2 4.2,9.6 ; 5.2,-10 5.2,-9.2 ; 6.7,9.2 6.7,10 ; 7.7,-9.6 7.7,-9.2 ; 9.2,-9.4 9.2,-9.2 ; 9.2,9.2 9.2,9.6 ; 9.9,-8.8 11.8,-8.8 11.8,-6.9 ; 9.9,8.8 11.8,8.8 11.8,6.9 ; 12.2,-6.4 12.4,-6.4 ; 12.2,-5.8 13,-5.8 ; 12.2,-3.3 12.6,-3.3 ; 12.2,-0.8 13,-0.8 ; 12.2,1.7 12.6,1.7 ; 12.2,4.2 13,4.2 ; 12.2,6.2 12.4,6.2
  text "1" at -10.1,-10 h0.8
  text "38" at 9.7,-10 h0.8
  text "39" at 13,-8.2 h0.8
  text "64" at 13,6.7 h0.8
  text "65" at 9.7,9.2 h0.8
  text "102" at -11.8,9.2 h0.8
  text "103" at -12.2,6.7 h0.8
  text "128" at -12.2,-8.8 h0.8
Package:
  circle w0.1: c-7.5,-4.5 r0.7
  lines w0.1: -10,-7 -10,7 10,7 10,-7 -10,-7
Courtyard:
  lines w0.1: -0.5,0 0.5,0 ; 0,-0.5 0,0.5 ; -12.5,-9.5 -12.5,9.5 12.5,9.5 12.5,-9.5 -12.5,-9.5
3D body: height 1.6, standoff 0, extent -10,-7 10,7

## LQFP-128/e0.4 [mm] "LQFP-128; JEDEC MS-026; Body 14.00x14.00x1.60mm; Pitch 0.4mm;"
height 1.6
pads (128):
  rect 0.4x1.8 smd mask+0.1: 1(-6.3,-8) 32(6.3,-8) 65(6.3,8) 96(-6.3,8)
  rect 0.2x1.8 smd mask+0.1: 2(-5.8,-8) 3(-5.4,-8) 4(-5,-8) 5(-4.6,-8) 6(-4.2,-8) 7(-3.8,-8) 8(-3.4,-8) 9(-3,-8) 10(-2.6,-8) 11(-2.2,-8) 12(-1.8,-8) 13(-1.4,-8) 14(-1,-8) 15(-0.6,-8) 16(-0.2,-8) 17(0.2,-8) 18(0.6,-8) 19(1,-8) 20(1.4,-8) 21(1.8,-8) 22(2.2,-8) 23(2.6,-8) 24(3,-8) 25(3.4,-8) 26(3.8,-8) 27(4.2,-8) 28(4.6,-8) 29(5,-8) 30(5.4,-8) 31(5.8,-8) 66(5.8,8) 67(5.4,8) 68(5,8) 69(4.6,8) 70(4.2,8) 71(3.8,8) 72(3.4,8) 73(3,8) 74(2.6,8) 75(2.2,8) 76(1.8,8) 77(1.4,8) 78(1,8) 79(0.6,8) 80(0.2,8) 81(-0.2,8) 82(-0.6,8) 83(-1,8) 84(-1.4,8) 85(-1.8,8) 86(-2.2,8) 87(-2.6,8) 88(-3,8) 89(-3.4,8) 90(-3.8,8) 91(-4.2,8) 92(-4.6,8) 93(-5,8) 94(-5.4,8) 95(-5.8,8)
  rect 1.8x0.4 smd mask+0.1: 33(8,-6.3) 64(8,6.3) 97(-8,6.3) 128(-8,-6.3)
  rect 1.8x0.2 smd mask+0.1: 34(8,-5.8) 35(8,-5.4) 36(8,-5) 37(8,-4.6) 38(8,-4.2) 39(8,-3.8) 40(8,-3.4) 41(8,-3) 42(8,-2.6) 43(8,-2.2) 44(8,-1.8) 45(8,-1.4) 46(8,-1) 47(8,-0.6) 48(8,-0.2) 49(8,0.2) 50(8,0.6) 51(8,1) 52(8,1.4) 53(8,1.8) 54(8,2.2) 55(8,2.6) 56(8,3) 57(8,3.4) 58(8,3.8) 59(8,4.2) 60(8,4.6) 61(8,5) 62(8,5.4) 63(8,5.8) 98(-8,5.8) 99(-8,5.4) 100(-8,5) 101(-8,4.6) 102(-8,4.2) 103(-8,3.8) 104(-8,3.4) 105(-8,3) 106(-8,2.6) 107(-8,2.2) 108(-8,1.8) 109(-8,1.4) 110(-8,1) 111(-8,0.6) 112(-8,0.2) 113(-8,-0.2) 114(-8,-0.6) 115(-8,-1) 116(-8,-1.4) 117(-8,-1.8) 118(-8,-2.2) 119(-8,-2.6) 120(-8,-3) 121(-8,-3.4) 122(-8,-3.8) 123(-8,-4.2) 124(-8,-4.6) 125(-8,-5) 126(-8,-5.4) 127(-8,-5.8)
Top Overlay:
  circle w0.3: c-7.1,-8 r0.1
  circle w0.3: c-5,-5 r0.5
  lines w0.3: -10.3,-3 -9.5,-3 ; -10.3,1 -9.5,1 ; -10.3,5 -9.5,5 ; -9.9,-5 -9.5,-5 ; -9.9,-1 -9.5,-1 ; -9.9,3 -9.5,3 ; -9.7,-6.2 -9.5,-6.2 ; -9.7,6.2 -9.5,6.2 ; -8.9,-7 -8.9,-8 -8,-8.9 -7,-8.9 ; -8.9,7 -8.9,8.9 -7,8.9 ; -6.2,-10.3 -6.2,-9.5 ; -6.2,9.5 -6.2,9.7 ; -5.8,9.5 -5.8,9.9 ; -4.6,-9.9 -4.6,-9.5 ; -3.8,9.5 -3.8,10.3 ; -2.6,-10.3 -2.6,-9.5 ; -1.8,9.5 -1.8,9.9 ; -0.6,-9.9 -0.6,-9.5 ; 0.2,9.5 0.2,10.3 ; 1.4,-10.3 1.4,-9.5 ; 2.2,9.5 2.2,9.9 ; 3.4,-9.9 3.4,-9.5 ; 4.2,9.5 4.2,10.3 ; 5.4,-10.3 5.4,-9.5 ; 6.2,-9.7 6.2,-9.5 ; 6.2,9.5 6.2,9.9 ; 7,-8.9 8.9,-8.9 8.9,-7 ; 7,8.9 8.9,8.9 8.9,7 ; 9.5,-6.2 9.7,-6.2 ; 9.5,-5.4 9.9,-5.4 ; 9.5,-3.4 10.3,-3.4 ; 9.5,-1.4 9.9,-1.4 ; 9.5,0.6 10.3,0.6 ; 9.5,2.6 9.9,2.6 ; 9.5,4.6 10.3,4.6 ; 9.5,6.2 9.7,6.2
  text "128" at -9.4,-8.7 h0.8
  text "97" at -9.4,6.7 h0.8
  text "96" at -8.1,9.4 h0.8
  text "65" at 6.7,9.4 h0.8
  text "64" at 10.2,6.7 h0.8
  text "33" at 10.2,-8 h0.8
  text "32" at 6.7,-10.2 h0.8
  text "1" at -7,-10.2 h0.8
Package:
  circle w0.1: c-5,-5 r0.5
  lines w0.1: -7,-7 -7,7 7,7 7,-7 -7,-7
Courtyard:
  lines w0.1: -0.5,0 0.5,0 ; 0,-0.5 0,0.5 ; -9.5,-9.5 -9.5,9.5 9.5,9.5 9.5,-9.5 -9.5,-9.5
3D body: height 1.6, standoff 0.1, extent -7,-7 7,7

## LQFP-144/e0.5 [mm] "LQFP-144; JEDEC MS-026BFB; Body 20.00x20.00x1.60mm; Pitch 0.5mm;"
height 1.6
pads (144):
  rect 0.5x1.8 smd mask+0.1: 1(-8.85,-11) 36(8.85,-11) 73(8.85,11) 108(-8.85,11)
  rect 0.3x1.8 smd mask+0.1: 2(-8.25,-11) 3(-7.75,-11) 4(-7.25,-11) 5(-6.75,-11) 6(-6.25,-11) 7(-5.75,-11) 8(-5.25,-11) 9(-4.75,-11) 10(-4.25,-11) 11(-3.75,-11) 12(-3.25,-11) 13(-2.75,-11) 14(-2.25,-11) 15(-1.75,-11) 16(-1.25,-11) 17(-0.75,-11) 18(-0.25,-11) 19(0.25,-11) 20(0.75,-11) 21(1.25,-11) 22(1.75,-11) 23(2.25,-11) 24(2.75,-11) 25(3.25,-11) 26(3.75,-11) 27(4.25,-11) 28(4.75,-11) 29(5.25,-11) 30(5.75,-11) 31(6.25,-11) 32(6.75,-11) 33(7.25,-11) 34(7.75,-11) 35(8.25,-11) 74(8.25,11) 75(7.75,11) 76(7.25,11) 77(6.75,11) 78(6.25,11) 79(5.75,11) 80(5.25,11) 81(4.75,11) 82(4.25,11) 83(3.75,11) 84(3.25,11) 85(2.75,11) 86(2.25,11) 87(1.75,11) 88(1.25,11) 89(0.75,11) 90(0.25,11) 91(-0.25,11) 92(-0.75,11) 93(-1.25,11) 94(-1.75,11) 95(-2.25,11) 96(-2.75,11) 97(-3.25,11) 98(-3.75,11) 99(-4.25,11) 100(-4.75,11) 101(-5.25,11) 102(-5.75,11) 103(-6.25,11) 104(-6.75,11) 105(-7.25,11) 106(-7.75,11) 107(-8.25,11)
  rect 1.8x0.5 smd mask+0.1: 37(11,-8.85) 72(11,8.85) 109(-11,8.85) 144(-11,-8.85)
  rect 1.8x0.3 smd mask+0.1: 38(11,-8.25) 39(11,-7.75) 40(11,-7.25) 41(11,-6.75) 42(11,-6.25) 43(11,-5.75) 44(11,-5.25) 45(11,-4.75) 46(11,-4.25) 47(11,-3.75) 48(11,-3.25) 49(11,-2.75) 50(11,-2.25) 51(11,-1.75) 52(11,-1.25) 53(11,-0.75) 54(11,-0.25) 55(11,0.25) 56(11,0.75) 57(11,1.25) 58(11,1.75) 59(11,2.25) 60(11,2.75) 61(11,3.25) 62(11,3.75) 63(11,4.25) 64(11,4.75) 65(11,5.25) 66(11,5.75) 67(11,6.25) 68(11,6.75) 69(11,7.25) 70(11,7.75) 71(11,8.25) 110(-11,8.25) 111(-11,7.75) 112(-11,7.25) 113(-11,6.75) 114(-11,6.25) 115(-11,5.75) 116(-11,5.25) 117(-11,4.75) 118(-11,4.25) 119(-11,3.75) 120(-11,3.25) 121(-11,2.75) 122(-11,2.25) 123(-11,1.75) 124(-11,1.25) 125(-11,0.75) 126(-11,0.25) 127(-11,-0.25) 128(-11,-0.75) 129(-11,-1.25) 130(-11,-1.75) 131(-11,-2.25) 132(-11,-2.75) 133(-11,-3.25) 134(-11,-3.75) 135(-11,-4.25) 136(-11,-4.75) 137(-11,-5.25) 138(-11,-5.75) 139(-11,-6.25) 140(-11,-6.75) 141(-11,-7.25) 142(-11,-7.75) 143(-11,-8.25)
Top Overlay:
  circle w0.3: c-8.5,-8.5 r0.5
  circle w0.3: c-9.7,-11 r0.1
  lines w0.3: -13.3,-6.8 -12.5,-6.8 ; -13.3,-1.8 -12.5,-1.8 ; -13.3,3.2 -12.5,3.2 ; -13.3,8.2 -12.5,8.2 ; -12.9,-4.3 -12.5,-4.3 ; -12.9,0.7 -12.5,0.7 ; -12.9,5.7 -12.5,5.7 ; -12.7,-8.8 -12.5,-8.8 ; -12.7,8.7 -12.5,8.7 ; -11.9,-9.6 -11.9,-11 -11,-11.9 -9.6,-11.9 ; -11.9,9.6 -11.9,11.9 -9.6,11.9 ; -8.8,-13.3 -8.8,-12.5 ; -8.8,12.5 -8.8,12.7 ; -7.3,12.5 -7.3,12.9 ; -6.8,-12.9 -6.8,-12.5 ; -4.8,12.5 -4.8,13.3 ; -4.3,-13.3 -4.3,-12.5 ; -2.3,12.5 -2.3,12.9 ; -1.8,-12.9 -1.8,-12.5 ; 0.2,12.5 0.2,13.3 ; 0.7,-13.3 0.7,-12.5 ; 2.7,12.5 2.7,12.9 ; 3.2,-12.9 3.2,-12.5 ; 5.2,12.5 5.2,13.3 ; 5.7,-13.3 5.7,-12.5 ; 7.7,12.5 7.7,12.9 ; 8.2,-12.9 8.2,-12.5 ; 8.7,-12.7 8.7,-12.5 ; 8.7,12.5 8.7,12.7 ; 9.6,-11.9 11.9,-11.9 11.9,-9.6 ; 9.6,11.9 11.9,11.9 11.9,9.6 ; 12.5,-8.8 12.7,-8.8 ; 12.5,-7.3 13.3,-7.3 ; 12.5,-4.8 12.9,-4.8 ; 12.5,-2.3 13.3,-2.3 ; 12.5,0.2 12.9,0.2 ; 12.5,2.7 13.3,2.7 ; 12.5,5.2 12.9,5.2 ; 12.5,7.7 13.3,7.7 ; 12.5,8.7 12.7,8.7
  text "1" at -9.6,-13.2 h0.8
  text "36" at 9.2,-13.2 h0.8
  text "37" at 13.2,-10.6 h0.8
  text "72" at 13.2,9.2 h0.8
  text "73" at 9.2,12.4 h0.8
  text "108" at -11.3,12.4 h0.8
  text "109" at -12.4,9.2 h0.8
  text "144" at -12.4,-11.3 h0.8
Package:
  circle w0.1: c-8.5,-8.5 r0.5
  lines w0.1: -10,-10 -10,10 10,10 10,-10 -10,-10
Courtyard:
  lines w0.1: -0.5,0 0.5,0 ; 0,-0.5 0,0.5 ; -12.5,-12.5 -12.5,12.5 12.5,12.5 12.5,-12.5 -12.5,-12.5
3D body: height 1.6, standoff 0.1, extent -10,-10 10,10

## LQFP-184/e0.4 [mm] "LQFP-184; JEDEC MS-026; Body 14.00x14.00x1.60mm; Pitch 0.4mm;"
height 1.6
pads (184):
  rect 0.4x1.8 smd mask+0.1: 1(-9.1,-11) 46(9.1,-11) 93(9.1,11) 138(-9.1,11)
  rect 0.2x1.8 smd mask+0.1: 2(-8.6,-11) 3(-8.2,-11) 4(-7.8,-11) 5(-7.4,-11) 6(-7,-11) 7(-6.6,-11) 8(-6.2,-11) 9(-5.8,-11) 10(-5.4,-11) 11(-5,-11) 12(-4.6,-11) 13(-4.2,-11) 14(-3.8,-11) 15(-3.4,-11) 16(-3,-11) 17(-2.6,-11) 18(-2.2,-11) 19(-1.8,-11) 20(-1.4,-11) 21(-1,-11) 22(-0.6,-11) 23(-0.2,-11) 24(0.2,-11) 25(0.6,-11) 26(1,-11) 27(1.4,-11) 28(1.8,-11) 29(2.2,-11) 30(2.6,-11) 31(3,-11) 32(3.4,-11) 33(3.8,-11) 34(4.2,-11) 35(4.6,-11) 36(5,-11) 37(5.4,-11) 38(5.8,-11) 39(6.2,-11) 40(6.6,-11) 41(7,-11) 42(7.4,-11) 43(7.8,-11) 44(8.2,-11) 45(8.6,-11) 94(8.6,11) 95(8.2,11) 96(7.8,11) 97(7.4,11) 98(7,11) 99(6.6,11) 100(6.2,11) 101(5.8,11) 102(5.4,11) 103(5,11) 104(4.6,11) 105(4.2,11) 106(3.8,11) 107(3.4,11) 108(3,11) 109(2.6,11) 110(2.2,11) 111(1.8,11) 112(1.4,11) 113(1,11) 114(0.6,11) 115(0.2,11) 116(-0.2,11) 117(-0.6,11) 118(-1,11) 119(-1.4,11) 120(-1.8,11) 121(-2.2,11) 122(-2.6,11) 123(-3,11) 124(-3.4,11) 125(-3.8,11) 126(-4.2,11) 127(-4.6,11) 128(-5,11) 129(-5.4,11) 130(-5.8,11) 131(-6.2,11) 132(-6.6,11) 133(-7,11) 134(-7.4,11) 135(-7.8,11) 136(-8.2,11) 137(-8.6,11)
  rect 1.8x0.4 smd mask+0.1: 47(11,-9.1) 92(11,9.1) 139(-11,9.1) 184(-11,-9.1)
  rect 1.8x0.2 smd mask+0.1: 48(11,-8.6) 49(11,-8.2) 50(11,-7.8) 51(11,-7.4) 52(11,-7) 53(11,-6.6) 54(11,-6.2) 55(11,-5.8) 56(11,-5.4) 57(11,-5) 58(11,-4.6) 59(11,-4.2) 60(11,-3.8) 61(11,-3.4) 62(11,-3) 63(11,-2.6) 64(11,-2.2) 65(11,-1.8) 66(11,-1.4) 67(11,-1) 68(11,-0.6) 69(11,-0.2) 70(11,0.2) 71(11,0.6) 72(11,1) 73(11,1.4) 74(11,1.8) 75(11,2.2) 76(11,2.6) 77(11,3) 78(11,3.4) 79(11,3.8) 80(11,4.2) 81(11,4.6) 82(11,5) 83(11,5.4) 84(11,5.8) 85(11,6.2) 86(11,6.6) 87(11,7) 88(11,7.4) 89(11,7.8) 90(11,8.2) 91(11,8.6) 140(-11,8.6) 141(-11,8.2) 142(-11,7.8) 143(-11,7.4) 144(-11,7) 145(-11,6.6) 146(-11,6.2) 147(-11,5.8) 148(-11,5.4) 149(-11,5) 150(-11,4.6) 151(-11,4.2) 152(-11,3.8) 153(-11,3.4) 154(-11,3) 155(-11,2.6) 156(-11,2.2) 157(-11,1.8) 158(-11,1.4) 159(-11,1) 160(-11,0.6) 161(-11,0.2) 162(-11,-0.2) 163(-11,-0.6) 164(-11,-1) 165(-11,-1.4) 166(-11,-1.8) 167(-11,-2.2) 168(-11,-2.6) 169(-11,-3) 170(-11,-3.4) 171(-11,-3.8) 172(-11,-4.2) 173(-11,-4.6) 174(-11,-5) 175(-11,-5.4) 176(-11,-5.8) 177(-11,-6.2) 178(-11,-6.6) 179(-11,-7) 180(-11,-7.4) 181(-11,-7.8) 182(-11,-8.2) 183(-11,-8.6)
Top Overlay:
  circle w0.3: c-9.9,-11 r0.1
  circle w0.3: c-8.5,-8.5 r0.5
  lines w0.3: -13.3,-7.4 -12.5,-7.4 ; -13.3,-3.8 -12.5,-3.8 ; -13.3,0.6 -12.5,0.6 ; -13.3,4.6 -12.5,4.6 ; -13.3,8.6 -12.5,8.6 ; -12.9,-5.4 -12.5,-5.4 ; -12.9,-1.4 -12.5,-1.4 ; -12.9,2.6 -12.5,2.6 ; -12.9,6.6 -12.5,6.6 ; -12.7,-9 -12.5,-9 ; -12.7,9 -12.5,9 ; -11.9,-9.8 -11.9,-11 -11,-11.9 -9.8,-11.9 ; -11.9,9.8 -11.9,11.9 -9.8,11.9 ; -9,-13.3 -9,-12.5 ; -9,12.5 -9,12.7 ; -7.8,12.5 -7.8,12.9 ; -7.4,-12.9 -7.4,-12.5 ; -5.8,12.5 -5.8,13.3 ; -5.4,-13.3 -5.4,-12.5 ; -3.8,12.5 -3.8,12.9 ; -3.4,-12.9 -3.4,-12.5 ; -1.8,12.5 -1.8,13.3 ; -1.4,-13.3 -1.4,-12.5 ; 0.2,12.5 0.2,12.9 ; 0.6,-12.9 0.6,-12.5 ; 2.2,12.5 2.2,13.3 ; 2.6,-13.3 2.6,-12.5 ; 4.2,12.5 4.2,12.9 ; 4.6,-12.9 4.6,-12.5 ; 6.2,12.5 6.2,13.3 ; 6.6,-13.3 6.6,-12.5 ; 8.2,12.5 8.2,12.9 ; 8.6,-12.9 8.6,-12.5 ; 9,-12.7 9,-12.5 ; 9,12.5 9,12.7 ; 9.8,-11.9 11.9,-11.9 11.9,-9.8 ; 9.8,11.9 11.9,11.9 11.9,9.8 ; 12.5,-9 12.7,-9 ; 12.5,-7.8 13.3,-7.8 ; 12.5,-5.8 12.9,-5.8 ; 12.5,-3.8 13.3,-3.8 ; 12.5,-1.8 12.9,-1.8 ; 12.5,0.2 13.3,0.2 ; 12.5,2.2 12.9,2.2 ; 12.5,4.2 13.3,4.2 ; 12.5,6.2 12.9,6.2 ; 12.5,8.2 13.3,8.2 ; 12.5,9 12.7,9
  text "184" at -12.4,-11.5 h0.8
  text "139" at -12.4,9.5 h0.8
  text "138" at -11.5,12.4 h0.8
  text "93" at 9.5,12.4 h0.8
  text "92" at 13.3,9.5 h0.8
  text "47" at 13.2,-10.8 h0.8
  text "46" at 9.5,-13.2 h0.8
  text "1" at -9.8,-13.2 h0.8
Package:
  circle w0.1: c-8.5,-8.5 r0.5
  lines w0.1: -10,-10 -10,10 10,10 10,-10 -10,-10
Courtyard:
  lines w0.1: -0.5,0 0.5,0 ; 0,-0.5 0,0.5 ; -12.5,-12.5 -12.5,12.5 12.5,12.5 12.5,-12.5 -12.5,-12.5
3D body: height 1.6, standoff 0.1, extent -10,-10 10,10

## LQFP-208/E0.5 [mm] "LQFP-208; JEDEC MS-026BJB; Body 28.00x28.00x1.60mm; Pitch 0.5mm;"
height 1.6
pads (208):
  rect 0.4x1.4 smd mask+0.1: 1(-12.8,-14.8) 52(12.8,-14.8) 105(12.8,14.8) 156(-12.8,14.8)
  rect 0.3x1.4 smd mask+0.1: 2(-12.25,-14.8) 3(-11.75,-14.8) 4(-11.25,-14.8) 5(-10.75,-14.8) 6(-10.25,-14.8) 7(-9.75,-14.8) 8(-9.25,-14.8) 9(-8.75,-14.8) 10(-8.25,-14.8) 11(-7.75,-14.8) 12(-7.25,-14.8) 13(-6.75,-14.8) 14(-6.25,-14.8) 15(-5.75,-14.8) 16(-5.25,-14.8) 17(-4.75,-14.8) 18(-4.25,-14.8) 19(-3.75,-14.8) 20(-3.25,-14.8) 21(-2.75,-14.8) 22(-2.25,-14.8) 23(-1.75,-14.8) 24(-1.25,-14.8) 25(-0.75,-14.8) 26(-0.25,-14.8) 27(0.25,-14.8) 28(0.75,-14.8) 29(1.25,-14.8) 30(1.75,-14.8) 31(2.25,-14.8) 32(2.75,-14.8) 33(3.25,-14.8) 34(3.75,-14.8) 35(4.25,-14.8) 36(4.75,-14.8) 37(5.25,-14.8) 38(5.75,-14.8) 39(6.25,-14.8) 40(6.75,-14.8) 41(7.25,-14.8) 42(7.75,-14.8) 43(8.25,-14.8) 44(8.75,-14.8) 45(9.25,-14.8) 46(9.75,-14.8) 47(10.25,-14.8) 48(10.75,-14.8) 49(11.25,-14.8) 50(11.75,-14.8) 51(12.25,-14.8) 106(12.25,14.8) 107(11.75,14.8) 108(11.25,14.8) 109(10.75,14.8) 110(10.25,14.8) 111(9.75,14.8) 112(9.25,14.8) 113(8.75,14.8) 114(8.25,14.8) 115(7.75,14.8) 116(7.25,14.8) 117(6.75,14.8) 118(6.25,14.8) 119(5.75,14.8) 120(5.25,14.8) 121(4.75,14.8) 122(4.25,14.8) 123(3.75,14.8) 124(3.25,14.8) 125(2.75,14.8) 126(2.25,14.8) 127(1.75,14.8) 128(1.25,14.8) 129(0.75,14.8) 130(0.25,14.8) 131(-0.25,14.8) 132(-0.75,14.8) 133(-1.25,14.8) 134(-1.75,14.8) 135(-2.25,14.8) 136(-2.75,14.8) 137(-3.25,14.8) 138(-3.75,14.8) 139(-4.25,14.8) 140(-4.75,14.8) 141(-5.25,14.8) 142(-5.75,14.8) 143(-6.25,14.8) 144(-6.75,14.8) 145(-7.25,14.8) 146(-7.75,14.8) 147(-8.25,14.8) 148(-8.75,14.8) 149(-9.25,14.8) 150(-9.75,14.8) 151(-10.25,14.8) 152(-10.75,14.8) 153(-11.25,14.8) 154(-11.75,14.8) 155(-12.25,14.8)
  rect 1.4x0.4 smd mask+0.1: 53(14.8,-12.8) 104(14.8,12.8) 157(-14.8,12.8) 208(-14.8,-12.8)
  rect 1.4x0.3 smd mask+0.1: 54(14.8,-12.25) 55(14.8,-11.75) 56(14.8,-11.25) 57(14.8,-10.75) 58(14.8,-10.25) 59(14.8,-9.75) 60(14.8,-9.25) 61(14.8,-8.75) 62(14.8,-8.25) 63(14.8,-7.75) 64(14.8,-7.25) 65(14.8,-6.75) 66(14.8,-6.25) 67(14.8,-5.75) 68(14.8,-5.25) 69(14.8,-4.75) 70(14.8,-4.25) 71(14.8,-3.75) 72(14.8,-3.25) 73(14.8,-2.75) 74(14.8,-2.25) 75(14.8,-1.75) 76(14.8,-1.25) 77(14.8,-0.75) 78(14.8,-0.25) 79(14.8,0.25) 80(14.8,0.75) 81(14.8,1.25) 82(14.8,1.75) 83(14.8,2.25) 84(14.8,2.75) 85(14.8,3.25) 86(14.8,3.75) 87(14.8,4.25) 88(14.8,4.75) 89(14.8,5.25) 90(14.8,5.75) 91(14.8,6.25) 92(14.8,6.75) 93(14.8,7.25) 94(14.8,7.75) 95(14.8,8.25) 96(14.8,8.75) 97(14.8,9.25) 98(14.8,9.75) 99(14.8,10.25) 100(14.8,10.75) 101(14.8,11.25) 102(14.8,11.75) 103(14.8,12.25) 158(-14.8,12.25) 159(-14.8,11.75) 160(-14.8,11.25) 161(-14.8,10.75) 162(-14.8,10.25) 163(-14.8,9.75) 164(-14.8,9.25) 165(-14.8,8.75) 166(-14.8,8.25) 167(-14.8,7.75) 168(-14.8,7.25) 169(-14.8,6.75) 170(-14.8,6.25) 171(-14.8,5.75) 172(-14.8,5.25) 173(-14.8,4.75) 174(-14.8,4.25) 175(-14.8,3.75) 176(-14.8,3.25) 177(-14.8,2.75) 178(-14.8,2.25) 179(-14.8,1.75) 180(-14.8,1.25) 181(-14.8,0.75) 182(-14.8,0.25) 183(-14.8,-0.25) 184(-14.8,-0.75) 185(-14.8,-1.25) 186(-14.8,-1.75) 187(-14.8,-2.25) 188(-14.8,-2.75) 189(-14.8,-3.25) 190(-14.8,-3.75) 191(-14.8,-4.25) 192(-14.8,-4.75) 193(-14.8,-5.25) 194(-14.8,-5.75) 195(-14.8,-6.25) 196(-14.8,-6.75) 197(-14.8,-7.25) 198(-14.8,-7.75) 199(-14.8,-8.25) 200(-14.8,-8.75) 201(-14.8,-9.25) 202(-14.8,-9.75) 203(-14.8,-10.25) 204(-14.8,-10.75) 205(-14.8,-11.25) 206(-14.8,-11.75) 207(-14.8,-12.25)
Top Overlay:
  circle w0.3: c-12,-12 r0.5
  circle w0.3: c-13.6,-14.8 r0.1
  lines w0.3: -16.9,-8.8 -16.1,-8.8 ; -16.9,-3.8 -16.1,-3.8 ; -16.9,1.2 -16.1,1.2 ; -16.9,6.2 -16.1,6.2 ; -16.9,11.2 -16.1,11.2 ; -16.5,-11.3 -16.1,-11.3 ; -16.5,-6.3 -16.1,-6.3 ; -16.5,-1.3 -16.1,-1.3 ; -16.5,3.7 -16.1,3.7 ; -16.5,8.7 -16.1,8.7 ; -16.3,-12.7 -16.1,-12.7 ; -16.3,12.7 -16.1,12.7 ; -15.4,-13.5 -15.4,-14.5 -14.5,-15.4 -13.5,-15.4 ; -15.4,13.5 -15.4,15.4 -13.5,15.4 ; -12.8,-16.9 -12.8,-16.1 ; -12.7,16.1 -12.7,16.3 ; -12.3,16.1 -12.3,16.5 ; -10.8,-16.5 -10.8,-16.1 ; -9.8,16.1 -9.8,16.9 ; -8.3,-16.9 -8.3,-16.1 ; -7.3,16.1 -7.3,16.5 ; -5.8,-16.5 -5.8,-16.1 ; -4.8,16.1 -4.8,16.9 ; -3.3,-16.9 -3.3,-16.1 ; -2.3,16.1 -2.3,16.5 ; -0.8,-16.5 -0.8,-16.1 ; 0.2,16.1 0.2,16.9 ; 1.7,-16.9 1.7,-16.1 ; 2.7,16.1 2.7,16.5 ; 4.2,-16.5 4.2,-16.1 ; 5.2,16.1 5.2,16.9 ; 6.7,-16.9 6.7,-16.1 ; 7.7,16.1 7.7,16.5 ; 9.2,-16.5 9.2,-16.1 ; 10.2,16.1 10.2,16.9 ; 11.7,-16.9 11.7,-16.1 ; 12.7,-16.3 12.7,-16.1 ; 12.7,16.1 12.7,16.5 ; 13.5,-15.4 15.4,-15.4 15.4,-13.5 ; 13.5,15.4 15.4,15.4 15.4,13.5 ; 16.1,-12.7 16.3,-12.7 ; 16.1,-11.8 16.5,-11.8 ; 16.1,-9.3 16.9,-9.3 ; 16.1,-6.8 16.5,-6.8 ; 16.1,-4.3 16.9,-4.3 ; 16.1,-1.8 16.5,-1.8 ; 16.1,0.7 16.9,0.7 ; 16.1,3.2 16.5,3.2 ; 16.1,5.7 16.9,5.7 ; 16.1,8.2 16.5,8.2 ; 16.1,10.7 16.9,10.7 ; 16.1,12.7 16.3,12.7
  text "52" at 13.2,-16.7 h0.8
  text "1" at -13.5,-16.7 h0.8
  text "53" at 16.7,-14.6 h0.8
  text "104" at 16.7,13.2 h0.8
  text "105" at 13.2,15.9 h0.8
  text "156" at -15.2,15.9 h0.8
  text "157" at -15.9,13.2 h0.8
  text "208" at -15.9,-15.3 h0.8
Package:
  circle w0.1: c-12,-12 r0.5
  lines w0.1: -14,-14 14,-14 14,14 -14,14 -14,-14
Courtyard:
  lines w0.1: -0.5,0 0.5,0 ; 0,-0.5 0,0.5 ; -16.1,-16.1 -16.1,16.1 16.1,16.1 16.1,-16.1 -16.1,-16.1
3D body: height 0, standoff 0, extent -14,-14 14,14

## PQFP-100/B14x20/e0.65 [mm] "PQFP-100; JEDEC MO-112CC-1; Body 14.00x20.00x2.00mm; Pitch 0.65mm;"
height 2
pads (100):
  rect 0.4x2 smd mask+0.1: 1(-9.425,-8.95) 2(-8.775,-8.95) 3(-8.125,-8.95) 4(-7.475,-8.95) 5(-6.825,-8.95) 6(-6.175,-8.95) 7(-5.525,-8.95) 8(-4.875,-8.95) 9(-4.225,-8.95) 10(-3.575,-8.95) 11(-2.925,-8.95) 12(-2.275,-8.95) 13(-1.625,-8.95) 14(-0.975,-8.95) 15(-0.325,-8.95) 16(0.325,-8.95) 17(0.975,-8.95) 18(1.625,-8.95) 19(2.275,-8.95) 20(2.925,-8.95) 21(3.575,-8.95) 22(4.225,-8.95) 23(4.875,-8.95) 24(5.525,-8.95) 25(6.175,-8.95) 26(6.825,-8.95) 27(7.475,-8.95) 28(8.125,-8.95) 29(8.775,-8.95) 30(9.425,-8.95) 51(9.425,8.95) 52(8.775,8.95) 53(8.125,8.95) 54(7.475,8.95) 55(6.825,8.95) 56(6.175,8.95) 57(5.525,8.95) 58(4.875,8.95) 59(4.225,8.95) 60(3.575,8.95) 61(2.925,8.95) 62(2.275,8.95) 63(1.625,8.95) 64(0.975,8.95) 65(0.325,8.95) 66(-0.325,8.95) 67(-0.975,8.95) 68(-1.625,8.95) 69(-2.275,8.95) 70(-2.925,8.95) 71(-3.575,8.95) 72(-4.225,8.95) 73(-4.875,8.95) 74(-5.525,8.95) 75(-6.175,8.95) 76(-6.825,8.95) 77(-7.475,8.95) 78(-8.125,8.95) 79(-8.775,8.95) 80(-9.425,8.95)
  rect 2x0.4 smd mask+0.1: 31(11.95,-6.175) 32(11.95,-5.525) 33(11.95,-4.875) 34(11.95,-4.225) 35(11.95,-3.575) 36(11.95,-2.925) 37(11.95,-2.275) 38(11.95,-1.625) 39(11.95,-0.975) 40(11.95,-0.325) 41(11.95,0.325) 42(11.95,0.975) 43(11.95,1.625) 44(11.95,2.275) 45(11.95,2.925) 46(11.95,3.575) 47(11.95,4.225) 48(11.95,4.875) 49(11.95,5.525) 50(11.95,6.175) 81(-11.95,6.175) 82(-11.95,5.525) 83(-11.95,4.875) 84(-11.95,4.225) 85(-11.95,3.575) 86(-11.95,2.925) 87(-11.95,2.275) 88(-11.95,1.625) 89(-11.95,0.975) 90(-11.95,0.325) 91(-11.95,-0.325) 92(-11.95,-0.975) 93(-11.95,-1.625) 94(-11.95,-2.275) 95(-11.95,-2.925) 96(-11.95,-3.575) 97(-11.95,-4.225) 98(-11.95,-4.875) 99(-11.95,-5.525) 100(-11.95,-6.175)
Top Overlay:
  circle w0.3: c-9,-6 r0.5
  circle w0.3: c-10.2,-8.9 r0.1
  lines w0.3: -14.3,-6.2 -13.5,-6.2 ; -14.3,0.3 -13.5,0.3 ; -13.9,-2.9 -13.5,-2.9 ; -13.9,3.6 -13.5,3.6 ; -13.7,6.2 -13.5,6.2 ; -12.9,-6.8 -12.9,-9 -12,-9.9 -10.1,-9.9 ; -12.9,6.8 -12.9,9.9 -10.1,9.9 ; -9.4,-11.3 -9.4,-10.5 ; -9.4,10.5 -9.4,11.3 ; -6.8,-10.9 -6.8,-10.5 ; -6.2,10.5 -6.2,10.9 ; -3.6,-11.3 -3.6,-10.5 ; -2.9,10.5 -2.9,11.3 ; -0.3,-10.9 -0.3,-10.5 ; 0.3,10.5 0.3,10.9 ; 2.9,-11.3 2.9,-10.5 ; 3.6,10.5 3.6,11.3 ; 6.2,-10.9 6.2,-10.5 ; 6.8,10.5 6.8,10.9 ; 9.4,-11.3 9.4,-10.5 ; 9.4,10.5 9.4,10.7 ; 10.1,-9.9 12.9,-9.9 12.9,-6.8 ; 10.1,9.9 12.9,9.9 12.9,6.8 ; 13.5,-6.2 13.7,-6.2 ; 13.5,-3.6 13.9,-3.6 ; 13.5,-0.3 14.3,-0.3 ; 13.5,2.9 13.9,2.9 ; 13.5,6.2 14.3,6.2
  text "100" at -13.4,-8.7 h0.8
  text "81" at -13.4,6.7 h0.8
  text "80" at -11.2,10.4 h0.8
  text "51" at 9.9,10.4 h0.8
  text "50" at 14.2,6.7 h0.8
  text "31" at 14.2,-7.8 h0.8
  text "30" at 9.9,-11.2 h0.8
  text "1" at -10.2,-11.2 h0.8
Package:
  circle w0.1: c-9,-6 r0.5
  lines w0.1: -10,-7 -10,7 10,7 10,-7 -10,-7
Courtyard:
  lines w0.1: -0.5,0 0.5,0 ; 0,-0.5 0,0.5 ; -13.5,-10.5 13.5,-10.5 13.5,10.5 -13.5,10.5 -13.5,-10.5
3D body: height 2, standoff 0, extent -10,-7 10,7

## PQFP-128/B14x20/e0.5 [mm] "PQFP-128; Body 14.00x20.00x3.40mm; Pitch 0.5mm;"
height 3.4
pads (128):
  rect 0.3x1.6 smd mask+0.1: 1(-9.25,-8.6) 2(-8.75,-8.6) 3(-8.25,-8.6) 4(-7.75,-8.6) 5(-7.25,-8.6) 6(-6.75,-8.6) 7(-6.25,-8.6) 8(-5.75,-8.6) 9(-5.25,-8.6) 10(-4.75,-8.6) 11(-4.25,-8.6) 12(-3.75,-8.6) 13(-3.25,-8.6) 14(-2.75,-8.6) 15(-2.25,-8.6) 16(-1.75,-8.6) 17(-1.25,-8.6) 18(-0.75,-8.6) 19(-0.25,-8.6) 20(0.25,-8.6) 21(0.75,-8.6) 22(1.25,-8.6) 23(1.75,-8.6) 24(2.25,-8.6) 25(2.75,-8.6) 26(3.25,-8.6) 27(3.75,-8.6) 28(4.25,-8.6) 29(4.75,-8.6) 30(5.25,-8.6) 31(5.75,-8.6) 32(6.25,-8.6) 33(6.75,-8.6) 34(7.25,-8.6) 35(7.75,-8.6) 36(8.25,-8.6) 37(8.75,-8.6) 38(9.25,-8.6) 65(9.25,8.6) 66(8.75,8.6) 67(8.25,8.6) 68(7.75,8.6) 69(7.25,8.6) 70(6.75,8.6) 71(6.25,8.6) 72(5.75,8.6) 73(5.25,8.6) 74(4.75,8.6) 75(4.25,8.6) 76(3.75,8.6) 77(3.25,8.6) 78(2.75,8.6) 79(2.25,8.6) 80(1.75,8.6) 81(1.25,8.6) 82(0.75,8.6) 83(0.25,8.6) 84(-0.25,8.6) 85(-0.75,8.6) 86(-1.25,8.6) 87(-1.75,8.6) 88(-2.25,8.6) 89(-2.75,8.6) 90(-3.25,8.6) 91(-3.75,8.6) 92(-4.25,8.6) 93(-4.75,8.6) 94(-5.25,8.6) 95(-5.75,8.6) 96(-6.25,8.6) 97(-6.75,8.6) 98(-7.25,8.6) 99(-7.75,8.6) 100(-8.25,8.6) 101(-8.75,8.6) 102(-9.25,8.6)
  rect 1.6x0.3 smd mask+0.1: 39(11.6,-6.25) 40(11.6,-5.75) 41(11.6,-5.25) 42(11.6,-4.75) 43(11.6,-4.25) 44(11.6,-3.75) 45(11.6,-3.25) 46(11.6,-2.75) 47(11.6,-2.25) 48(11.6,-1.75) 49(11.6,-1.25) 50(11.6,-0.75) 51(11.6,-0.25) 52(11.6,0.25) 53(11.6,0.75) 54(11.6,1.25) 55(11.6,1.75) 56(11.6,2.25) 57(11.6,2.75) 58(11.6,3.25) 59(11.6,3.75) 60(11.6,4.25) 61(11.6,4.75) 62(11.6,5.25) 63(11.6,5.75) 64(11.6,6.25) 103(-11.6,6.25) 104(-11.6,5.75) 105(-11.6,5.25) 106(-11.6,4.75) 107(-11.6,4.25) 108(-11.6,3.75) 109(-11.6,3.25) 110(-11.6,2.75) 111(-11.6,2.25) 112(-11.6,1.75) 113(-11.6,1.25) 114(-11.6,0.75) 115(-11.6,0.25) 116(-11.6,-0.25) 117(-11.6,-0.75) 118(-11.6,-1.25) 119(-11.6,-1.75) 120(-11.6,-2.25) 121(-11.6,-2.75) 122(-11.6,-3.25) 123(-11.6,-3.75) 124(-11.6,-4.25) 125(-11.6,-4.75) 126(-11.6,-5.25) 127(-11.6,-5.75) 128(-11.6,-6.25)
Top Overlay:
  circle w0.3: c-10,-8.6 r0.1
  circle w0.3: c-7.5,-4.5 r0.7
  lines w0.3: -13.7,-2.3 -12.9,-2.3 ; -13.7,2.7 -12.9,2.7 ; -13.3,-4.8 -12.9,-4.8 ; -13.3,0.2 -12.9,0.2 ; -13.3,5.2 -12.9,5.2 ; -13.1,-6.3 -12.9,-6.3 ; -13.1,6.2 -12.9,6.2 ; -12.4,-6.9 -12.4,-8.5 -11.5,-9.4 -9.9,-9.4 ; -12.4,6.9 -12.4,9.4 -9.9,9.4 ; -9.3,-10.7 -9.3,-9.9 ; -9.3,9.9 -9.3,10.1 ; -8.3,9.9 -8.3,10.7 ; -7.3,-10.3 -7.3,-9.9 ; -5.8,9.9 -5.8,10.3 ; -4.8,-10.7 -4.8,-9.9 ; -3.3,9.9 -3.3,10.7 ; -2.3,-10.3 -2.3,-9.9 ; -0.8,9.9 -0.8,10.3 ; 0.2,-10.7 0.2,-9.9 ; 1.7,9.9 1.7,10.7 ; 2.7,-10.3 2.7,-9.9 ; 4.2,9.9 4.2,10.3 ; 5.2,-10.7 5.2,-9.9 ; 6.7,9.9 6.7,10.7 ; 7.7,-10.3 7.7,-9.9 ; 9.2,-10.1 9.2,-9.9 ; 9.2,9.9 9.2,10.3 ; 9.9,-9.4 12.4,-9.4 12.4,-6.9 ; 9.9,9.4 12.4,9.4 12.4,6.9 ; 12.9,-6.4 13.1,-6.4 ; 12.9,-5.8 13.7,-5.8 ; 12.9,-3.3 13.3,-3.3 ; 12.9,-0.8 13.7,-0.8 ; 12.9,1.7 13.3,1.7 ; 12.9,4.2 13.7,4.2 ; 12.9,6.2 13.1,6.2
  text "128" at -12.9,-8.8 h0.8
  text "103" at -12.9,6.7 h0.8
  text "102" at -11.8,9.9 h0.8
  text "65" at 9.7,9.9 h0.8
  text "64" at 13.7,6.7 h0.8
  text "39" at 13.7,-8.2 h0.8
  text "38" at 9.7,-10.7 h0.8
  text "1" at -10.1,-10.7 h0.8
Package:
  circle w0.1: c-7.5,-4.5 r0.7
  lines w0.1: -10,-7 10,-7 10,7 -10,7 -10,-7
Courtyard:
  lines w0.1: -0.5,0 0.5,0 ; 0,-0.5 0,0.5 ; -13.1,-10.1 13.1,-10.1 13.1,10.1 -13.1,10.1 -13.1,-10.1
3D body: height 3.2, standoff 0, extent -10,-7 10,7